# Altium schematic symbol library XSDR.SchLib: 22 symbols
Pins are listed as number, name and electrical type; pins without a type are passive.

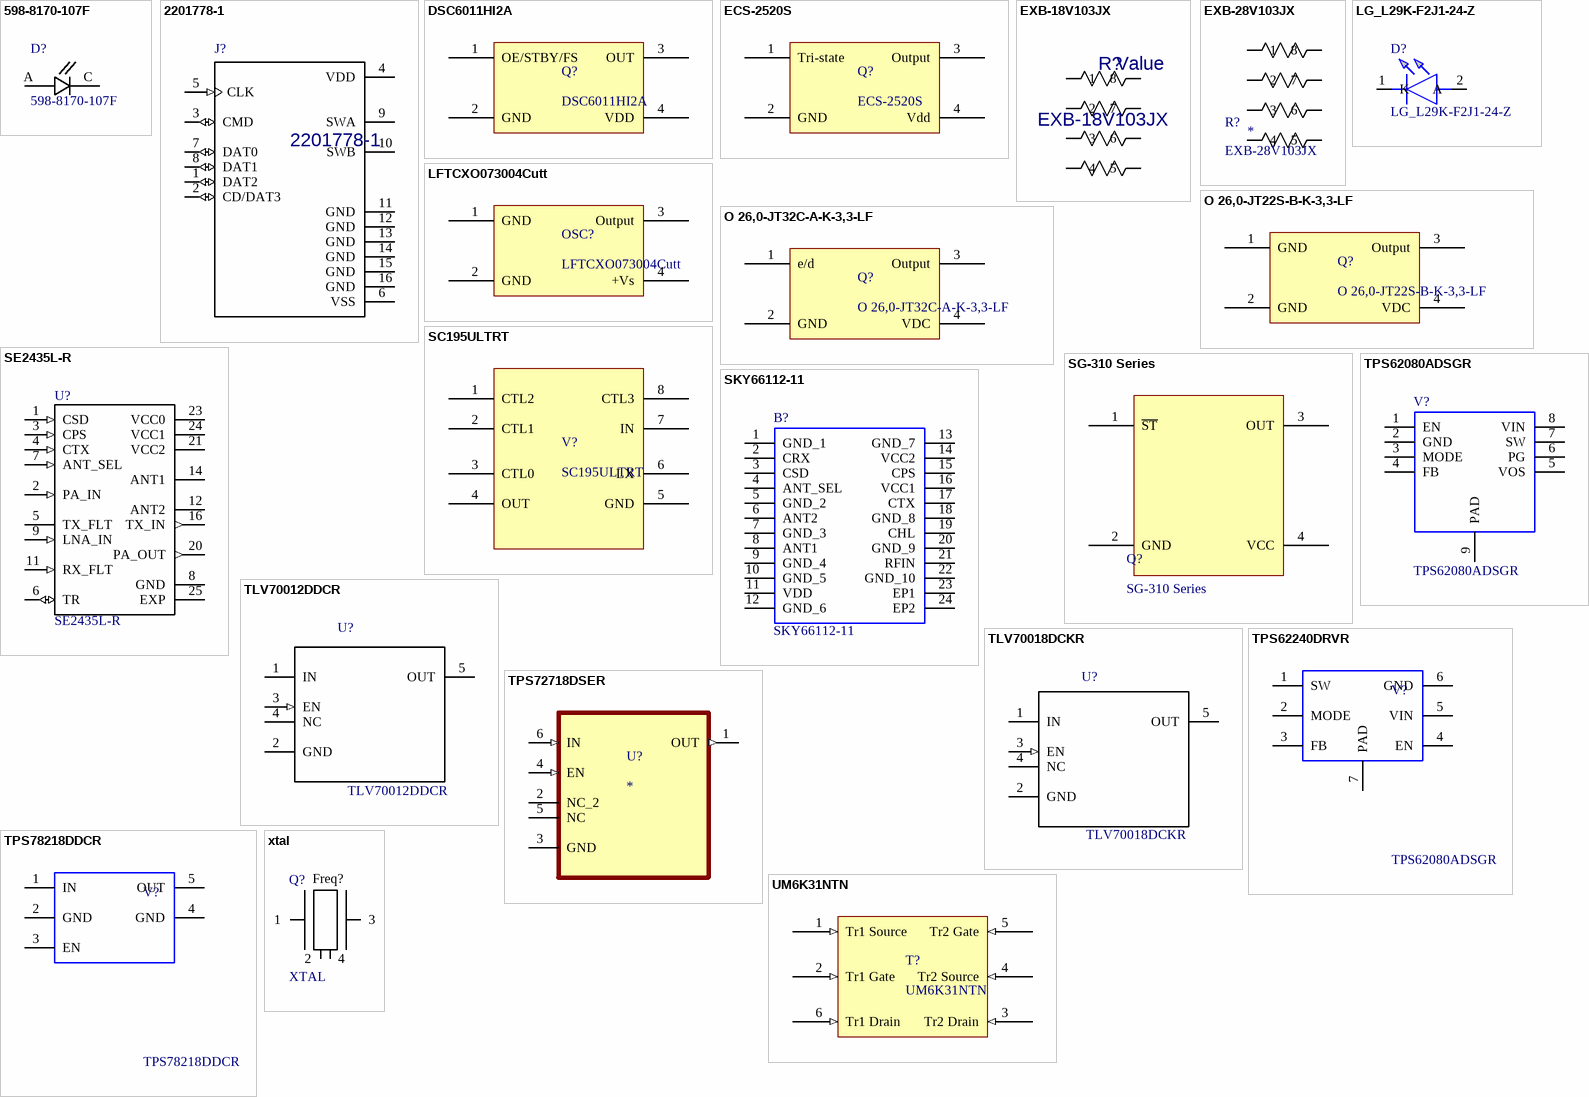
[diagram p0: symbols 598-8170-107F to xtal]

## 598-8170-107F
designator D?
Led; 0805 Smt Led, Green, Alingap, Water Clear Lens, 140 Deg Viewing Angle; MF: Dialight; MP: 598-8170-107F; SnapEDA_Link: https://www.snapeda.com/parts/598-8170-107F/Dialight/view-part/?ref=snap; Package: 0805 Dialight; Price: 0.11 USD; Availability: Good; Value: *
footprint LEDC2012X70N_598-8170-107F(Primary)
pins: A, C

## 2201778-1
designator J?
MICRO SD PUSH PUSH LOW PROFILE TYPE; Number_of_Positions: 8; MF: TE Connectivity; Centerline_Pitch: 1.1 mm[.04 in]; Product_Type: Removable Memory Products; EU_RoHS_Compliance: Compliant; Digi-Key_Part_Number: A118117CT-ND; SnapEDA_Link: https://www.snapeda.com/parts/2201778-1/TE%20Connectivity%20AMP%20Connectors/view-part/?ref=snap; MP: 2201778-1; Digi-Key_Purchase_URL: https://www.digikey.com/product-detail/en/te-connectivity-amp-connectors/2201778-1/A118117CT-ND/4729820?utm_source=snapeda&utm_medium=aggregator&utm_campaign=symbol; Package: None; Link: http://www.te.com/usa-en/product-2201778-1.html; Value: *
footprint TE_2201778-1
pins: 1 DAT2 (io), 2 CD/DAT3 (io), 3 CMD (io), 4 VDD (power), 5 CLK (in), 6 VSS (power), 7 DAT0 (io), 8 DAT1 (io), 9 SWA, 10 SWB, 11 GND (power), 12 GND (power), 13 GND (power), 14 GND (power), 15 GND (power), 16 GND (power)

## DSC6011HI2A
designator Q?
32MHz XO (Standard) CMOS Oscillator 1.71 V ~ 3.63 V Enable/Disable 4-SMD, No Lead
footprint VFLGA16x12
pins: 1 OE/STBY/FS, 2 GND, 3 OUT, 4 VDD

## ECS-2520S
designator Q?
footprint ECS-2520S18-500-FN-TR
pins: 1 Tri-state, 2 GND, 3 Output, 4 Vdd

## EXB-18V103JX
designator R?
C: Copyright (C) 2015 Accelerated Designs. All rights reserved; Vendor: Panasonic; Copyright: Copyright (C) 2015 Accelerated Designs. All rights reserved; Manufacturer_Part_Number: EXB-18V103JX; Value: Value
footprint EXB18V
footprint EXB18V-L
footprint EXB18V-M
pins: 1, 2, 3, 4, 5, 6, 7, 8

## EXB-28V103JX
designator R?
Res Thick Film Array 10K Ohm 5% ?200ppm/C ISOL Molded 8-Pin 0804_4 X 0402_ Convex SMD Automotive T/R; MF: Panasonic Electronic; Availability: Unavailable; SnapEDA_Link: https://www.snapeda.com/parts/EXB-28V103JX/Panasonic%20Electronic%20Components/view-part/?ref=snap; Package: 0804 Panasonic; MP: EXB-28V103JX; Price: None; Value: *
footprint MNR04_EXB-28V103JX(Primary)
pins: 1, 2, 3, 4, 5, 6, 7, 8

## LFTCXO073004Cutt
designator OSC?
footprint LFTCXO073004Cutt
pins: 1 GND, 2 GND, 3 Output, 4 +Vs

## LG_L29K-F2J1-24-Z
designator D?
Green 570nm LED Indication - Discrete 1.7V 0603 (1608 Metric); Manufacturer_Name: OSRAM Opto Semiconductors; Manufacturer_Part_Number: LG L29K-F2J1-24-Z; Arrow Part Number: LG L29K-F2J1-24-Z; Datasheet Link: https://www.arrow.com/en/products/lgl29k-f2j1-24-z/osram-opto-semiconductors
footprint LY-L29K
pins: 1 K, 2 A

## O 26,0-JT22S-B-K-3,3-LF
designator Q?
footprint O 26,0-JT22S-B-K-3,3-LF
pins: 1 GND, 2 GND, 3 Output, 4 VDC

## O 26,0-JT32C-A-K-3,3-LF
designator Q?
footprint O 26,0-JT32C-A-K-3,3-LF
pins: 1 e/d, 2 GND, 3 Output, 4 VDC

## SC195ULTRT
designator V?
footprint QFN40P150X150X60-8N-D
pins: 1 CTL2, 2 CTL1, 3 CTL0, 4 OUT, 5 GND, 6 LX, 7 IN, 8 CTL3

## SE2435L-R
designator U?
LNA/PA RF Front End 16dB 2dB 24-Pin QFN EP T/R; MF: Skyworks Solutions; Price: None; Package: QFN-24 Skyworks Solutions; SnapEDA_Link: https://www.snapeda.com/parts/SE2435L-R/Skyworks%20Solutions%20Inc./view-part/?ref=snap; Availability: Unavailable; MP: SE2435L-R; Value: *
footprint QFN50P400X400X90-25N
pins: 1 CSD (in), 2 PA_IN (in), 3 CPS (in), 4 CTX (in), 5 TX_FLT, 6 TR (io), 7 ANT_SEL (in), 8 GND (power), 9 LNA_IN (in), 11 RX_FLT (in), 12 ANT2, 14 ANT1, 16 TX_IN (out), 20 PA_OUT (out), 21 VCC2 (power), 23 VCC0 (power), 24 VCC1 (power), 25 EXP (power)

## SG-310 Series
designator Q?
OSC XO 50.000MHZ CMOS SMD
footprint SG-310SDN (SG-310SDN 50.0000MJ3)
pins: 1 ~{ST}, 2 GND, 3 OUT, 4 VCC

## SKY66112-11
designator B?
RF Front End Cnnctd Home/Wearable BLE+ZigBee Family; Manufacturer_Name: Skyworks; Geometry.Height: 1mm; Manufacturer_Part_Number: SKY66112-11; RS Part Number: *; RS Price/Stock: *; Mouser Part Number: 873-SKY66112-11; Mouser Price/Stock: https://www.mouser.com/Search/Refine.aspx?Keyword=873-SKY66112-11; Datasheet Link: http://www.skyworksinc.com/uploads/documents/SKY66112_11_203225L.pdf
footprint SKY6611211
pins: 1 GND_1, 2 CRX, 3 CSD, 4 ANT_SEL, 5 GND_2, 6 ANT2, 7 GND_3, 8 ANT1, 9 GND_4, 10 GND_5, 11 VDD, 12 GND_6, 13 GND_7, 14 VCC2, 15 CPS, 16 VCC1, 17 CTX, 18 GND_8, 19 CHL, 20 GND_9, 21 RFIN, 22 GND_10, 23 EP1, 24 EP2

## TLV70012DDCR
designator U?
200mA, Low IQ, Low Dropout Regulator for Portables 5-SOT-23-THIN -40 to 125; MF: Texas Instruments; Package: TSOT-23 Texas Instruments; MP: TLV70012DDCR; Digi-Key_Part_Number: 296-39275-1-ND; Digi-Key_Purchase_URL: https://www.digikey.com/product-detail/en/texas-instruments/TLV70012DDCR/296-39275-1-ND/5143266?utm_source=snapeda&utm_medium=aggregator&utm_campaign=symbol; SnapEDA_Link: https://www.snapeda.com/parts/TLV70012DDCR/Texas%20Instruments/view-part/?ref=snap; Value: *
footprint SOT95P280X110-5N
pins: 1 IN (power), 2 GND (power), 3 EN (in), 4 NC, 5 OUT (power)

## TLV70018DCKR
designator U?
LDO voltage regulator [Texas Instruments] TLV70018DCKR LDO voltage regulator; Package: SC-70-5 Texas Instruments; MP: TLV70018DCKR; Digi-Key_Part_Number: 296-32409-1-ND; Digi-Key_Purchase_URL: https://www.digikey.com/product-detail/en/texas-instruments/TLV70018DCKR/296-32409-1-ND/3505567?utm_source=snapeda&utm_medium=aggregator&utm_campaign=symbol; MF: Texas Instruments; SnapEDA_Link: https://www.snapeda.com/parts/TLV70018DCKR/Texas%20Instruments/view-part/?ref=snap; Value: *
footprint SOT65P210X110-5N
pins: 1 IN (power), 2 GND (power), 3 EN (in), 4 NC, 5 OUT (power)

## TPS62080ADSGR
designator V?
Buck Switching Regulator IC Positive Adjustable 0.5V 1 Output 1.2A 8-WFDFN Exposed Pad; Manufacturer_Name: Texas Instruments; Manufacturer_Part_Number: TPS62080ADSGT; Geometry.Height: 0.8mm; Mouser Part Number: 595-TPS62080ADSGT; Datasheet Link: http://www.ti.com/lit/ds/symlink/tps62080a.pdf
footprint SON50P200X200X80-9N
pins: 1 EN, 2 GND (power), 3 MODE, 4 FB, 5 VOS, 6 PG, 7 SW (power), 8 VIN (power), 9 PAD

## TPS62240DRVR
designator V?, comment TPS62080ADSGR
Buck Switching Regulator IC Positive Adjustable 0.6V 1 Output 300mA 6-WDFN Exposed Pad; Manufacturer_Name: Texas Instruments; Manufacturer_Part_Number: TPS62080ADSGT; Geometry.Height: 0.8mm; Mouser Part Number: 595-TPS62080ADSGT; Datasheet Link: http://www.ti.com/lit/ds/symlink/tps62080a.pdf
footprint SON65P200X200X80-7N
pins: 1 SW, 2 MODE (power), 3 FB, 4 EN, 5 VIN (power), 6 GND (power), 7 PAD

## TPS72718DSER
designator U?
RF LOW-DROPOUT LINEAR REGULATOR; MP: TPS72718DSER; Package: None; Price: None; Value: *; Availability: Unavailable
footprint SON50P150X150X80-6N
pins: 1 OUT (out), 2 NC_2, 3 GND, 4 EN (in), 5 NC, 6 IN (in)

## TPS78218DDCR
designator V?
Linear Voltage Regulator IC  1 Output  150mA SOT-23-5; Manufacturer_Name: Texas Instruments; Manufacturer_Part_Number: TPS62080ADSGT; Geometry.Height: 0.8mm; Mouser Part Number: 595-TPS62080ADSGT; Datasheet Link: http://www.ti.com/lit/ds/symlink/tps62080a.pdf
footprint DDC5_TEX
pins: 1 IN, 2 GND (power), 3 EN, 4 GND, 5 OUT (power)

## UM6K31NTN
designator T?
Mosfet Array 2 N-Channel (Dual) 60V 250mA 150mW Surface Mount UMT6
footprint SC-88
pins: 1 Tr1 Source (in), 2 Tr1 Gate (in), 3 Tr2 Drain (in), 4 Tr2 Source (in), 5 Tr2 Gate (in), 6 Tr1 Drain (in)

## xtal
designator Q?, comment XTAL  value Freq?
Crystal with GND pins; LatestRevisionDate: 05-oct-2007  -  Semtech
footprint Q 26,0-JXS21-8-10/10-FU-WA-LF (Crystal SMD 2x1.6mm)
pins: 1, 2, 3, 4